# Altium footprint library AON7804.PcbLib: 2 footprints
Each footprint in its own frame and in the unit in brackets; x right, y up, seen from the top. Pads: shape width x height; smd on the part's side, far side on the other; paste and mask are expansions set on the pad; w line width, h text height; cw(c..) or ccw(c..) is an arc to the next point about the centre after c.
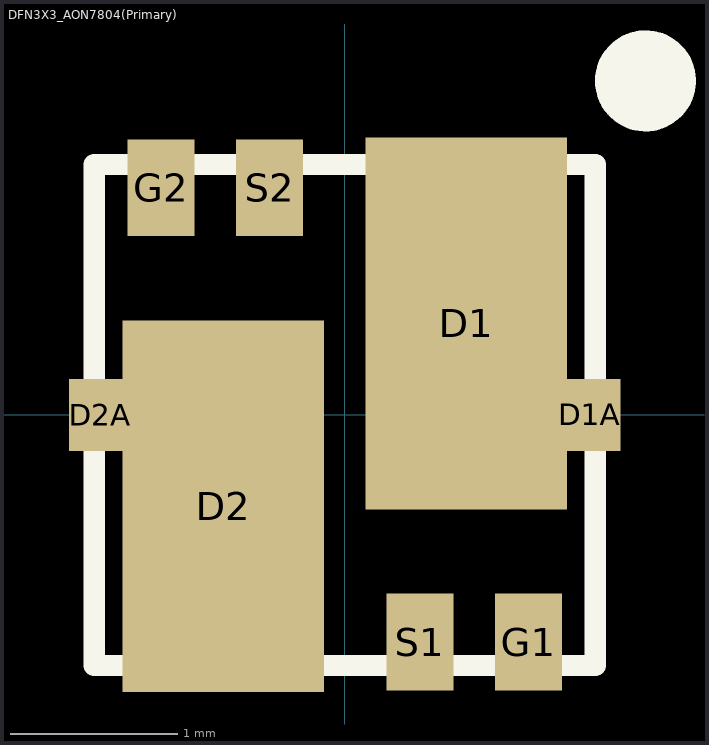
[diagram p0: the footprints below, top view; thin cyan lines are the x and y axes]

## DFN3X3_AON7804(Primary) [mm]
pads (8):
  rect 1.205x2.225 smd: D1(0.727,0.547) D2(-0.727,-0.547)
  rect 0.37x0.43 smd: D1A(1.465,0) D2A(-1.465,0)
  rect 0.4x0.58 smd: G1(1.1,-1.36) G2(-1.1,1.36) S1(0.45,-1.36) S2(-0.45,1.36)
Top Overlay:
  circle w0.305: c1.8,2 r0.15
  lines w0.127: -1.5,-1.5 -1.5,1.5 1.5,1.5 1.5,-1.5 -1.5,-1.5
3D body "-DFN_3x3_8L_EP2_P.STEP": height 0.82, standoff 0.01, extent -1.55,-1.6 1.55,1.6

## PCBComponent_1 [mm]